# Altium footprint library murata.PcbLib: 2 footprints
Each footprint in its own frame and in the unit in brackets; x right, y up, seen from the top. Pads: shape width x height; smd on the part's side, far side on the other; paste and mask are expansions set on the pad; w line width, h text height; cw(c..) or ccw(c..) is an arc to the next point about the centre after c.
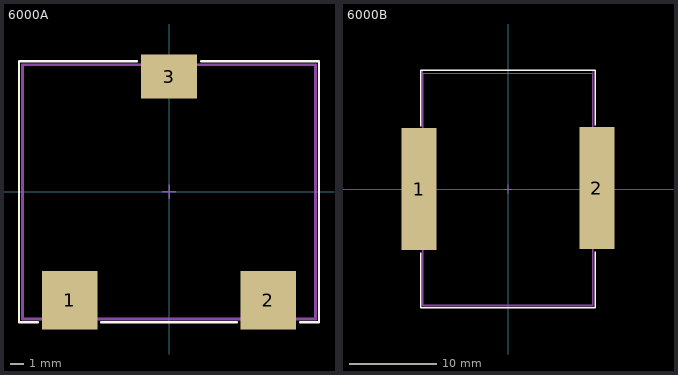
[diagram p0: the footprints below, top view; thin cyan lines are the x and y axes]

## 6000A [mm] "High Current Inductor"
height 12
pads (3):
  rect 4x4.2 smd: 1(-7.15,-7.8) 2(7.15,-7.8)
  rect 4x3.2 smd: 3(0,8.3)
Top Overlay:
  lines w0.16: -9.425,-9.4 -10.8,-9.4 -10.8,9.4 -2.3,9.4 ; -4.875,-9.4 4.875,-9.4 ; 2.3,9.4 10.8,9.4 10.8,-9.4 9.425,-9.4
Mechanical 13:
  lines w0.1: -0.5,0 0.5,0 ; 0,-0.5 0,0.5 ; -10.5,-9.1 10.5,-9.1 10.5,9.1 -10.5,9.1 -10.5,-9.1
Mechanical 15:
  lines w0.1: -10.6,-9.2 10.6,-9.2 10.6,9.2 -10.6,9.2 -10.6,-9.2
  text ".Designator" at -2.1,-1.8 h0.8
3D body: height 8.69, standoff -0.01, extent -10.5,-9.1 10.5,9.1

## 6000B [mm] "High Current Inductor"
height 20
pads (2):
  rect 4x14 smd: 1(-10.2,0) 2(10.2,0.1)
Top Overlay:
  lines w0.16: -10,-7.3 -10,-13.6 10,-13.6 10,-7.2 ; -10,7.2 -10,13.6 10,13.6 10,7.3
Mechanical 13:
  lines w0.1: -0.5,0 0.5,0 ; 0,-0.5 0,0.5 ; -9.7,-13.3 -9.7,13.3 9.7,13.3 9.7,-13.3 -9.7,-13.3
Mechanical 15:
  lines w0.1: -9.8,-13.4 -9.8,13.6 9.8,13.6 9.8,-13.4 -9.8,-13.4
  text ".Designator" at -2.1,-1.8 h0.8
3D body: height 18.93, standoff -0.01, extent -11.6,-13.3 11.6,13.3